# EAGLE library part LPC1342FHN33 (library ERNW_parts)
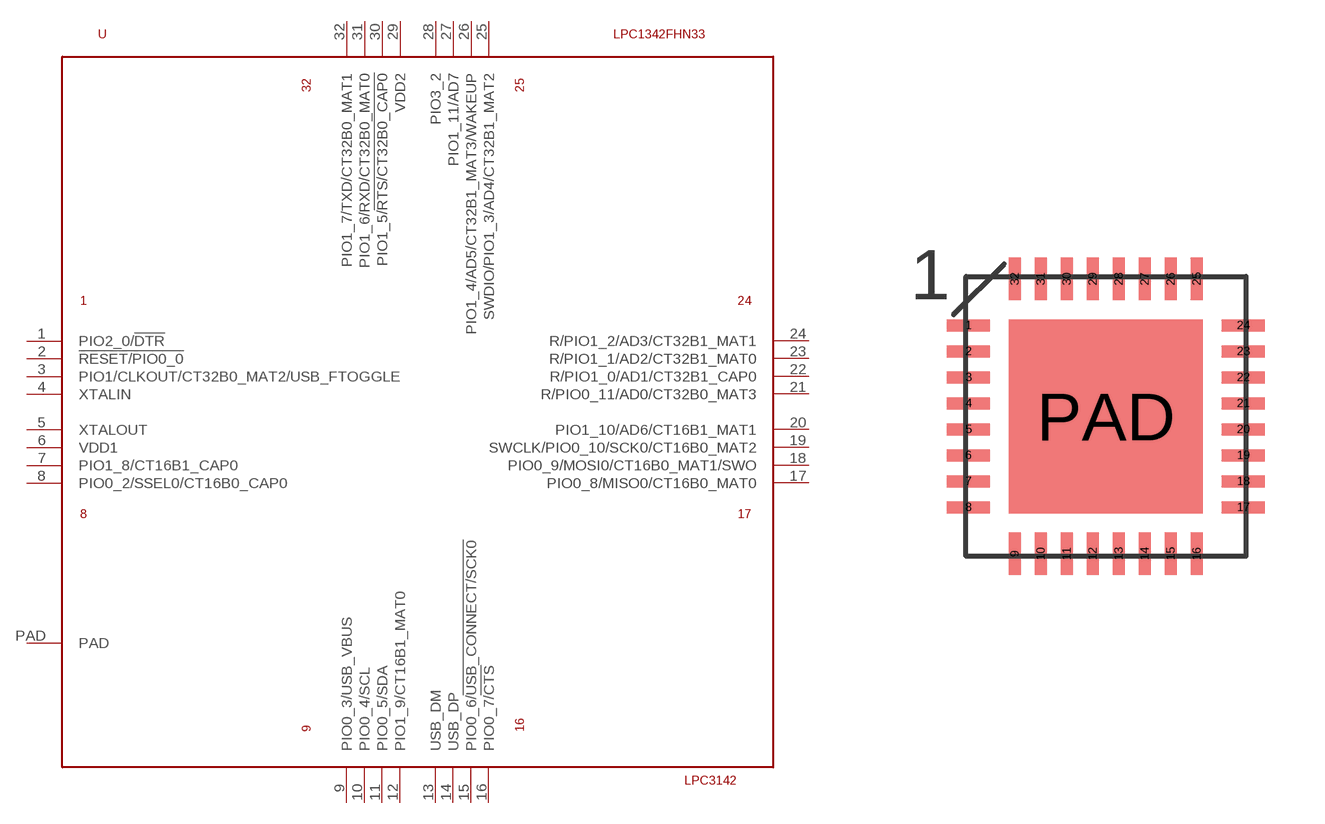
[diagram p3: symbol with the pads of HVQFN33; footprint HVQFN33]

Designator prefix -

## LPC1342FHN33  [HVQFN33]
1  PIO2_0/!DTR
2  !RESET/PIO0_0
3  PIO1/CLKOUT/CT32B0_MAT2/USB_FTOGGLE
4  XTALIN
5  XTALOUT
6  VDD1
7  PIO1_8/CT16B1_CAP0
8  PIO0_2/SSEL0/CT16B0_CAP0
9  PIO0_3/USB_VBUS
10  PIO0_4/SCL
11  PIO0_5/SDA
12  PIO1_9/CT16B1_MAT0
13  USB_DM
14  USB_DP
15  PIO0_6/!USB_CONNECT/SCK0
16  PIO0_7/!CTS
17  PIO0_8/MISO0/CT16B0_MAT0
18  PIO0_9/MOSI0/CT16B0_MAT1/SWO
19  SWCLK/PIO0_10/SCK0/CT16B0_MAT2
20  PIO1_10/AD6/CT16B1_MAT1
21  R/PIO0_11/AD0/CT32B0_MAT3
22  R/PIO1_0/AD1/CT32B1_CAP0
23  R/PIO1_1/AD2/CT32B1_MAT0
24  R/PIO1_2/AD3/CT32B1_MAT1
25  SWDIO/PIO1_3/AD4/CT32B1_MAT2
26  PIO1_4/AD5/CT32B1_MAT3/WAKEUP
27  PIO1_11/AD7
28  PIO3_2
29  VDD2
30  PIO1_5/!RTS/CT32B0_CAP0
31  PIO1_6/RXD/CT32B0_MAT0
32  PIO1_7/TXD/CT32B0_MAT1
PAD  PAD

## Footprint HVQFN33 (pad centres in mm)
smd 1.07 x 0.3: 1 -3.438,2.275; 2 -3.438,1.625; 3 -3.438,0.975; 4 -3.438,0.325; 5 -3.438,-0.325; 6 -3.438,-0.975; 7 -3.438,-1.625; 8 -3.438,-2.275; 17 3.438,-2.275; 18 3.438,-1.625; 19 3.438,-0.975; 20 3.438,-0.325; 21 3.438,0.325; 22 3.438,0.975; 23 3.438,1.625; 24 3.438,2.275
smd 0.3 x 1.07: 9 -2.275,-3.438; 10 -1.625,-3.438; 11 -0.975,-3.438; 12 -0.325,-3.438; 13 0.325,-3.438; 14 0.975,-3.438; 15 1.625,-3.438; 16 2.275,-3.438; 25 2.275,3.438; 26 1.625,3.438; 27 0.975,3.438; 28 0.325,3.438; 29 -0.325,3.438; 30 -0.975,3.438; 31 -1.625,3.438; 32 -2.275,3.438
smd 4.85 x 4.85: PAD 0,0